# Altium footprint library 1SS389.PcbLib: 3 footprints
Each footprint in its own frame and in the unit in brackets; x right, y up, seen from the top. Pads: shape width x height; smd on the part's side, far side on the other; paste and mask are expansions set on the pad; w line width, h text height; cw(c..) or ccw(c..) is an arc to the next point about the centre after c.
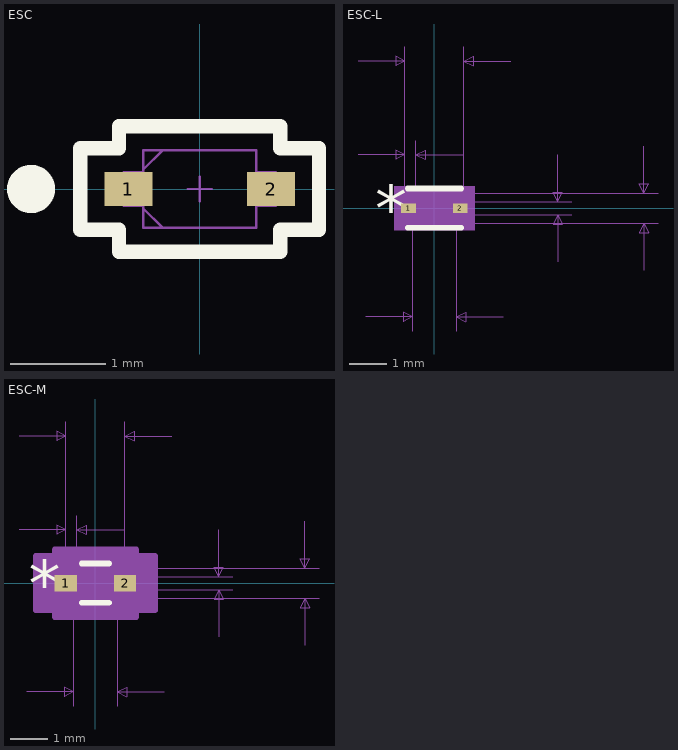
[diagram p0: the footprints below, top view; thin cyan lines are the x and y axes]

## ESC [mil]
pads (2):
  rect 19.81x14 smd paste+0 mask+0: 1(-29.59,0) 2(29.59,0)
Top Overlay:
  circle w10: c-70,0 r5
  lines w6: -49.5,-17 -49.5,17 -33.5,17 -33.5,26 33.5,26 33.5,17 49.5,17 49.5,-17 33.5,-17 33.5,-26 -33.5,-26 -33.5,-17 -49.5,-17
Mechanical 13:
  lines w1: -23.5,-8 -15.5,-16 ; -23.5,8 -15.5,16 ; -31.5,-7 -31.5,7 -23.5,7 -23.5,-7 -31.5,-7 ; -23.5,-16 23.5,-16 23.5,16 -23.5,16 -23.5,-16 ; 23.5,-7 23.5,7 31.5,7 31.5,-7 23.5,-7
Mechanical 15:
  lines w1: -5,0 5,0 ; 0,-5 0,5
3D body: height 39.37, standoff 0, extent -36.74,-27.49 36.75,27.5

## ESC-L [mil]
pads (2):
  rect 15.81x10 smd paste+0 mask+0: 1(-27.59,0) 2(27.59,0)
Top Overlay:
  lines w6: -28.5,-21 28.5,-21 ; -28.5,21 28.5,21
  text "*" at -63,-25 h50
Mechanical 5:
  region: 43,-23.5 -43,-23.5 -43,23.5 43,23.5
Mechanical 7:
  lines w1: -81.5,57 -31.5,57 ; -81.5,157 -31.5,157 ; -73.5,-116 -23.5,-116 ; -31.5,72 -31.5,0 -31.5,172 ; -23.5,-131 -23.5,0 ; -19.69,0 -19.69,72 ; 0,-16 238.5,-16 ; 0,16 238.5,16 ; 23.5,-131 23.5,0 ; 30.31,57 -19.69,57 ; 31.5,-7 146.5,-7 ; 31.5,0 31.5,172 ; 31.5,7 146.5,7 ; 73.5,-116 23.5,-116 ; 81.5,157 31.5,157 ; 131.5,-57 131.5,-7 ; 131.5,57 131.5,7 ; 223.5,-66 223.5,-16 ; 223.5,66 223.5,16 ; -31.5,57 -41.5,62 -41.5,52 -31.5,57 ; -31.5,157 -41.5,162 -41.5,152 -31.5,157 ; -23.5,-116 -33.5,-111 -33.5,-121 -23.5,-116 ; -19.69,57 -9.69,62 -9.69,52 -19.69,57 ; 23.5,-116 33.5,-111 33.5,-121 23.5,-116 ; 31.5,157 41.5,162 41.5,152 31.5,157 ; 131.5,-7 126.5,-17 136.5,-17 131.5,-7 ; 131.5,7 126.5,17 136.5,17 131.5,7 ; 223.5,-16 218.5,-26 228.5,-26 223.5,-16 ; 223.5,16 218.5,26 228.5,26 223.5,16
  text "Default Padstyle: RX15p81Y10D0T" at -387.5,-330 h50
  text "Alt 1 Padstyle: RX24Y32D0T" at -325,-405 h50
  text "Alt 2 Padstyle: OX90Y60D30P" at -337.5,-480 h50
  text "0.063in/1.6mm" at -81.25,177 h25
  text "0.012in/0.3mm" at -106.84,77 h25
  text "0.014in/0.356mm" at 151.5,-12.5 h25
  text "0.032in/0.813mm" at 243.5,-12.5 h25
  text "0.047in/1.194mm" at -93.75,-161 h25
Mechanical 13:
  lines w1: -23.5,-8 -15.5,-16 ; -23.5,8 -15.5,16 ; -31.5,-7 -31.5,7 -23.5,7 -23.5,-7 -31.5,-7 ; -23.5,-16 23.5,-16 23.5,16 -23.5,16 -23.5,-16 ; 23.5,-7 23.5,7 31.5,7 31.5,-7 23.5,-7
  text "*" at -26,-25 h50
Mechanical 15:
  region: -27.5,-9 -39.5,-9 -39.5,9 -27.5,9 -27.5,20 27.5,20 27.5,9 39.5,9 39.5,-9 27.5,-9 27.5,-20 -27.5,-20
  lines w6: -39.5,-9 -39.5,9 -27.5,9 -27.5,20 27.5,20 27.5,9 39.5,9 39.5,-9 27.5,-9 27.5,-20 -27.5,-20 -27.5,-9 -39.5,-9
3D body: height 10, standoff 0, extent 0,0 10,10

## ESC-M [mil]
pads (2):
  rect 23.81x18 smd paste+0 mask+0: 1(-31.59,0) 2(31.59,0)
Top Overlay:
  lines w6: -14.43,-21 14.43,-21 ; -14.43,21 14.43,21
  text "*" at -71,-25 h50
Mechanical 5:
  region: 51,-23.5 -51,-23.5 -51,23.5 51,23.5
Mechanical 7:
  lines w1: -81.5,57 -31.5,57 ; -81.5,157 -31.5,157 ; -73.5,-116 -23.5,-116 ; -31.5,72 -31.5,0 -31.5,172 ; -23.5,-131 -23.5,0 ; -19.69,0 -19.69,72 ; 0,-16 238.5,-16 ; 0,16 238.5,16 ; 23.5,-131 23.5,0 ; 30.31,57 -19.69,57 ; 31.5,-7 146.5,-7 ; 31.5,0 31.5,172 ; 31.5,7 146.5,7 ; 73.5,-116 23.5,-116 ; 81.5,157 31.5,157 ; 131.5,-57 131.5,-7 ; 131.5,57 131.5,7 ; 223.5,-66 223.5,-16 ; 223.5,66 223.5,16 ; -31.5,57 -41.5,62 -41.5,52 -31.5,57 ; -31.5,157 -41.5,162 -41.5,152 -31.5,157 ; -23.5,-116 -33.5,-111 -33.5,-121 -23.5,-116 ; -19.69,57 -9.69,62 -9.69,52 -19.69,57 ; 23.5,-116 33.5,-111 33.5,-121 23.5,-116 ; 31.5,157 41.5,162 41.5,152 31.5,157 ; 131.5,-7 126.5,-17 136.5,-17 131.5,-7 ; 131.5,7 126.5,17 136.5,17 131.5,7 ; 223.5,-16 218.5,-26 228.5,-26 223.5,-16 ; 223.5,16 218.5,26 228.5,26 223.5,16
  text "Default Padstyle: RX23p81Y18D0T" at -387.5,-334 h50
  text "Alt 1 Padstyle: RX24Y32D0T" at -325,-409 h50
  text "Alt 2 Padstyle: OX90Y60D30P" at -337.5,-484 h50
  text "0.063in/1.6mm" at -81.25,177 h25
  text "0.012in/0.3mm" at -106.84,77 h25
  text "0.014in/0.356mm" at 151.5,-12.5 h25
  text "0.032in/0.813mm" at 243.5,-12.5 h25
  text "0.047in/1.194mm" at -93.75,-161 h25
Mechanical 13:
  lines w1: -23.5,-8 -15.5,-16 ; -23.5,8 -15.5,16 ; -31.5,-7 -31.5,7 -23.5,7 -23.5,-7 -31.5,-7 ; -23.5,-16 23.5,-16 23.5,16 -23.5,16 -23.5,-16 ; 23.5,-7 23.5,7 31.5,7 31.5,-7 23.5,-7
  text "*" at -26,-25 h50
Mechanical 15:
  region: -43.5,-29 -63.5,-29 -63.5,29 -43.5,29 -43.5,36 43.5,36 43.5,29 63.5,29 63.5,-29 43.5,-29 43.5,-36 -43.5,-36
  lines w6: -63.5,-29 -63.5,29 -43.5,29 -43.5,36 43.5,36 43.5,29 63.5,29 63.5,-29 43.5,-29 43.5,-36 -43.5,-36 -43.5,-29 -63.5,-29
3D body: height 10, standoff 0, extent 0,0 10,10